# Altium schematic symbol library BAT46JFILM.Schlib: 1 symbol
Pins are listed as number, name and electrical type; pins without a type are passive.

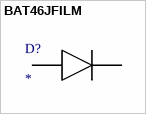
[diagram p0: symbol BAT46JFILM]

## BAT46JFILM
designator D?
pins: 1 C, 2 A